# EAGLE library part STM32F401RB (library stm32f4)
STM32F401RB STM32F4 MCU with Cortex-M4 core and FPU, 128kB Flash, 64kB RAM, max clock frequency 84MHz Features: 7x General purpose timer 1x Advanced control timer 3x SPI 2x I2S 3x I2C 3x USART 1x SDIO 1x USB OTG 1x ADC Data sheet <http://www.st.com/st-web-ui/static/active/en/resource/technical/document/datasheet/DM00086815.pdf>
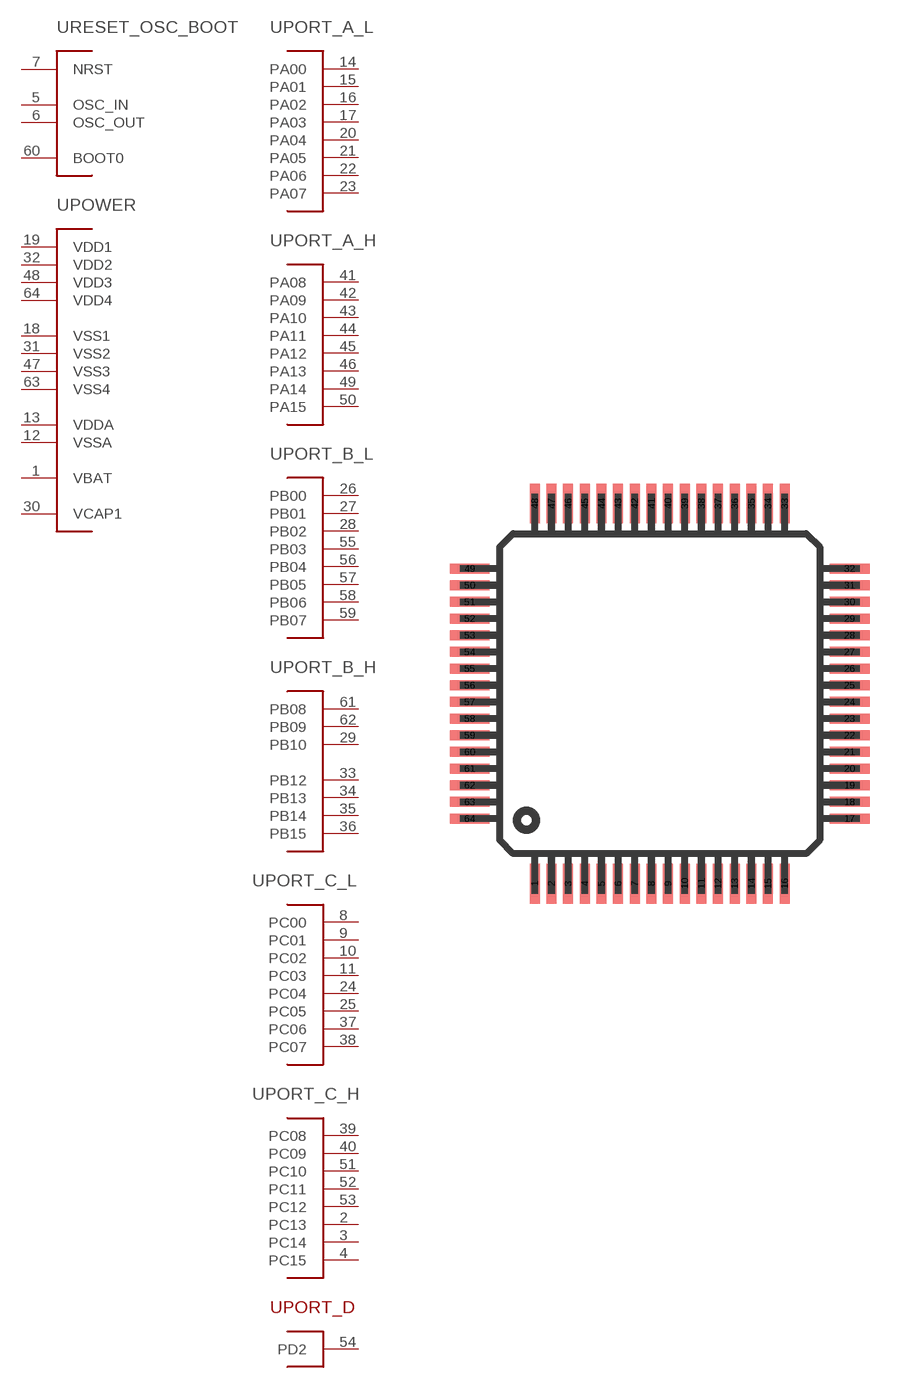
[diagram p0: symbol with the pads of LQFP64; footprint LQFP64]

Designator prefix -; gates PORT_A_L=PORT_A_L PORT_A_H=PORT_A_H PORT_B_L=PORT_B_L PORT_B_H=PORT_B_H PORT_C_L=PORT_C_L PORT_C_H=PORT_C_H PORT_D=PORT_D2 RESET_OSC_BOOT=RESET_OSC_BOOT POWER=POWER

## STM32F401RB  [LQFP64]
1  POWER:VBAT
2  PORT_C_H:PC13
3  PORT_C_H:PC14
4  PORT_C_H:PC15
5  RESET_OSC_BOOT:OSC_IN
6  RESET_OSC_BOOT:OSC_OUT
7  RESET_OSC_BOOT:NRST
8  PORT_C_L:PC00
9  PORT_C_L:PC01
10  PORT_C_L:PC02
11  PORT_C_L:PC03
12  POWER:VSSA
13  POWER:VDDA
14  PORT_A_L:PA00
15  PORT_A_L:PA01
16  PORT_A_L:PA02
17  PORT_A_L:PA03
18  POWER:VSS1
19  POWER:VDD1
20  PORT_A_L:PA04
21  PORT_A_L:PA05
22  PORT_A_L:PA06
23  PORT_A_L:PA07
24  PORT_C_L:PC04
25  PORT_C_L:PC05
26  PORT_B_L:PB00
27  PORT_B_L:PB01
28  PORT_B_L:PB02
29  PORT_B_H:PB10
30  POWER:VCAP1
31  POWER:VSS2
32  POWER:VDD2
33  PORT_B_H:PB12
34  PORT_B_H:PB13
35  PORT_B_H:PB14
36  PORT_B_H:PB15
37  PORT_C_L:PC06
38  PORT_C_L:PC07
39  PORT_C_H:PC08
40  PORT_C_H:PC09
41  PORT_A_H:PA08
42  PORT_A_H:PA09
43  PORT_A_H:PA10
44  PORT_A_H:PA11
45  PORT_A_H:PA12
46  PORT_A_H:PA13
47  POWER:VSS3
48  POWER:VDD3
49  PORT_A_H:PA14
50  PORT_A_H:PA15
51  PORT_C_H:PC10
52  PORT_C_H:PC11
53  PORT_C_H:PC12
54  PORT_D:PD2
55  PORT_B_L:PB03
56  PORT_B_L:PB04
57  PORT_B_L:PB05
58  PORT_B_L:PB06
59  PORT_B_L:PB07
60  RESET_OSC_BOOT:BOOT0
61  PORT_B_H:PB08
62  PORT_B_H:PB09
63  POWER:VSS4
64  POWER:VDD4

## Footprint LQFP64 (pad centres in mm)
smd 0.3 x 1.2: 1 -3.75,-5.7; 2 -3.25,-5.7; 3 -2.75,-5.7; 4 -2.25,-5.7; 5 -1.75,-5.7; 6 -1.25,-5.7; 7 -0.75,-5.7; 8 -0.25,-5.7; 9 0.25,-5.7; 10 0.75,-5.7; 11 1.25,-5.7; 12 1.75,-5.7; 13 2.25,-5.7; 14 2.75,-5.7; 15 3.25,-5.7; 16 3.75,-5.7; 33 3.75,5.7; 34 3.25,5.7; 35 2.75,5.7; 36 2.25,5.7; 37 1.75,5.7; 38 1.25,5.7; 39 0.75,5.7; 40 0.25,5.7; 41 -0.25,5.7; 42 -0.75,5.7; 43 -1.25,5.7; 44 -1.75,5.7; 45 -2.25,5.7; 46 -2.75,5.7; 47 -3.25,5.7; 48 -3.75,5.7
smd 1.2 x 0.3: 17 5.7,-3.75; 18 5.7,-3.25; 19 5.7,-2.75; 20 5.7,-2.25; 21 5.7,-1.75; 22 5.7,-1.25; 23 5.7,-0.75; 24 5.7,-0.25; 25 5.7,0.25; 26 5.7,0.75; 27 5.7,1.25; 28 5.7,1.75; 29 5.7,2.25; 30 5.7,2.75; 31 5.7,3.25; 32 5.7,3.75; 49 -5.7,3.75; 50 -5.7,3.25; 51 -5.7,2.75; 52 -5.7,2.25; 53 -5.7,1.75; 54 -5.7,1.25; 55 -5.7,0.75; 56 -5.7,0.25; 57 -5.7,-0.25; 58 -5.7,-0.75; 59 -5.7,-1.25; 60 -5.7,-1.75; 61 -5.7,-2.25; 62 -5.7,-2.75; 63 -5.7,-3.25; 64 -5.7,-3.75